# Altium schematic symbol library xfmr_ct.Schlib: 1 symbol
Pins are listed as number, name and electrical type; pins without a type are passive.

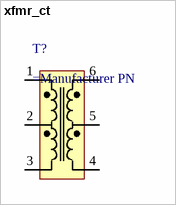
[diagram p0: symbol xfmr_ct]

## xfmr_ct
designator T?
Pulse Transformer
pins: 1, 2 NC hidden, 2, 3, 4, 5 NC hidden, 5, 6